# Altium footprint library MiniPC.PcbLib: 2 footprints
Each footprint in its own frame and in the unit in brackets; x right, y up, seen from the top. Pads: shape width x height; smd on the part's side, far side on the other; paste and mask are expansions set on the pad; w line width, h text height; cw(c..) or ccw(c..) is an arc to the next point about the centre after c.
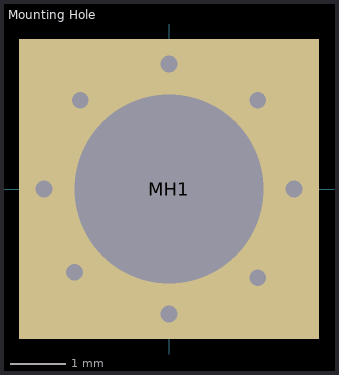
[diagram p0: the footprints below, top view; thin cyan lines are the x and y axes]

## Full Fan Mini [mm]
3D body "FULL FAN MINI.STEP": height 27.12, standoff -4.67, extent -35.625,-35.625 35.625,35.625

## Mounting Hole [mm]
pads (1):
  rect 5.4x5.4 hole 3.4: MH1(0,0)
via 0,2.25 diameter 0.7 hole 0.3
via 0,-2.25 diameter 0.7 hole 0.3
via -2.25,0 diameter 0.7 hole 0.3
via 2.25,0 diameter 0.7 hole 0.3
via 1.6,-1.6 diameter 0.7 hole 0.3
via -1.6,1.6 diameter 0.7 hole 0.3
via -1.7,-1.5 diameter 0.7 hole 0.3
via 1.6,1.6 diameter 0.7 hole 0.3